# EAGLE library part AD5245 (library Mikes-Stuff)
5K digital potentiometer with 1 I2C address pin
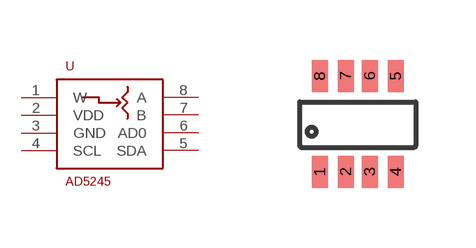
[diagram p18: symbol with the pads of SOT23-8; footprint SOT23-8]

Designator prefix -

## AD5245SOT23-8  [SOT23-8]
1  W
2  VDD
3  GND
4  SCL
5  SDA
6  AD0
7  B
8  A

## Footprint SOT23-8 (pad centres in mm)
smd 0.4 x 0.8: 1 -0.95,-1.2; 2 -0.3,-1.2; 3 0.3,-1.2; 4 0.95,-1.2; 5 0.95,1.2; 6 0.3,1.2; 7 -0.3,1.2; 8 -0.95,1.2